# EAGLE library part PMA3-83LN+ (library My_Library_2)
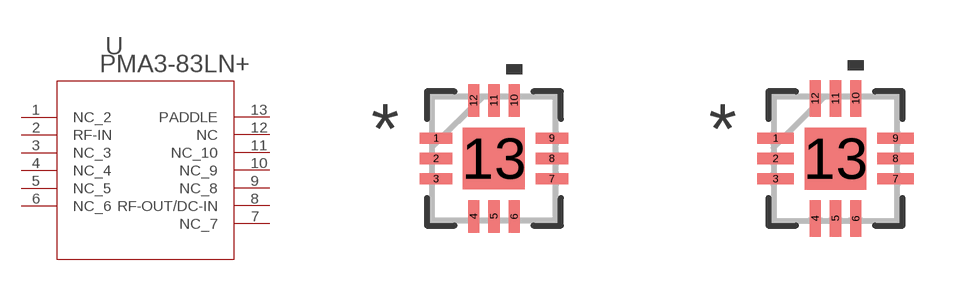
[diagram p5: symbol with the pads of DQ1225_MNC; footprints DQ1225_MNC, DQ1225_MNC-M]

Designator prefix U

## PMA3-83LN+ (COPYRIGHT: Copyright (C) 2024 Ultra Librarian. All rights reserved.; MANUFACTURER_PART_NUMBER: PMA3-83LN+; MFR_NAME: Mini Circuits)  [DQ1225_MNC]
1  NC_2  nc
2  RF-IN  in
3  NC_3  nc
4  NC_4  nc
5  NC_5  nc
6  NC_6  nc
7  NC_7  nc
8  RF-OUT/DC-IN  out
9  NC_8  nc
10  NC_9  nc
11  NC_10  nc
12  NC  nc
13  PADDLE  pas

## PMA3-83LN+DQ1225_MNC-M (COPYRIGHT: Copyright (C) 2024 Ultra Librarian. All rights reserved.; MANUFACTURER_PART_NUMBER: PMA3-83LN+; MFR_NAME: Mini Circuits)  [DQ1225_MNC-M]
Pads as for DQ1225_MNC

## PMA3-83LN+DQ1225_MNC-L (COPYRIGHT: Copyright (C) 2024 Ultra Librarian. All rights reserved.; MANUFACTURER_PART_NUMBER: PMA3-83LN+; MFR_NAME: Mini Circuits)  [DQ1225_MNC-L]
Pads as for DQ1225_MNC

## Footprint DQ1225_MNC (pad centres in mm)
smd 0.813 x 0.279: 1 -1.448,0.508; 2 -1.448,0; 3 -1.448,-0.508; 7 1.448,-0.508; 8 1.448,0; 9 1.448,0.508
smd 0.279 x 0.813: 4 -0.508,-1.448; 5 0,-1.448; 6 0.508,-1.448; 10 0.508,1.448; 11 0,1.448; 12 -0.508,1.448
smd 1.549 x 1.549: 13 0,0

## Footprint DQ1225_MNC-M (pad centres in mm)
smd 0.914 x 0.279: 1 -1.499,0.508; 2 -1.499,0; 3 -1.499,-0.508; 7 1.499,-0.508; 8 1.499,0; 9 1.499,0.508
smd 0.279 x 0.914: 4 -0.508,-1.499; 5 0,-1.499; 6 0.508,-1.499; 10 0.508,1.499; 11 0,1.499; 12 -0.508,1.499
smd 1.549 x 1.549: 13 0,0

## Footprint DQ1225_MNC-L (pad centres in mm)
smd 0.711 x 0.279: 1 -1.397,0.508; 2 -1.397,0; 3 -1.397,-0.508; 7 1.397,-0.508; 8 1.397,0; 9 1.397,0.508
smd 0.279 x 0.711: 4 -0.508,-1.397; 5 0,-1.397; 6 0.508,-1.397; 10 0.508,1.397; 11 0,1.397; 12 -0.508,1.397
smd 1.549 x 1.549: 13 0,0